# Altium schematic symbol library AS1117.SchLib: 1 symbol
Pins are listed as number, name and electrical type; pins without a type are passive.

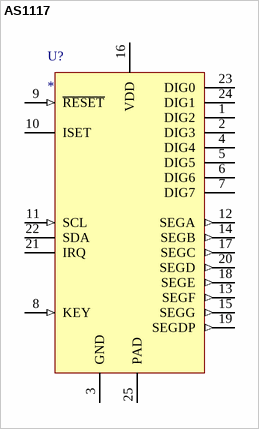
[diagram p0: symbol AS1117]

## AS1117
designator U?
64-LED Mobile Display Driver
pins: 1 DIG2 (oc), 2 DIG3 (oc), 3 GND (power), 4 DIG4 (oc), 5 DIG5 (oc), 6 DIG6 (oc), 7 DIG7 (oc), 8 KEY (in) "Keyscan Input", 9 ~{RESET} (in) "Active Low Reset", 10 ISET, 11 SCL (in), 12 SEGA (out), 13 SEGF (out), 14 SEGB (out), 15 SEGG (out), 16 VDD (power), 17 SEGC (out), 18 SEGE (out), 19 SEGDP (out), 20 SEGD (out), 21 IRQ (oc) "Interrupt Request Output (OD)", 22 SDA (oc), 23 DIG0 (oc), 24 DIG1 (oc), 25 PAD (power)